# Altium schematic symbol library 2450AT18A100E.SchLib: 1 symbol
Pins are listed as number, name and electrical type; pins without a type are passive.

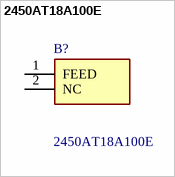
[diagram p0: symbol 2450AT18A100E]

## 2450AT18A100E
designator B?
Antennas 2.45GHz ANTENNA; Manufacturer_Name: JOHANSON TECHNOLOGY; Geometry.Height: 1.4mm; Mouser Part Number: 609-2450AT18A100E; Mouser Price/Stock: https://www.mouser.co.uk/ProductDetail/Johanson-Technology/2450AT18A100E?qs=yCnrNFeXz%252BjzOYKPg7LGCw%3D%3D; Manufacturer_Part_Number: 2450AT18A100E; Datasheet Link: https://www.johansontechnology.com/datasheets/2450AT18A100/2450AT18A100.pdf
footprint ANTC3216X140N
pins: 1 FEED, 2 NC